# Altium footprint library Switch_PcbLib.PcbLib: 24 footprints (part 2 of 2)
Each footprint in its own frame and in the unit in brackets; x right, y up, seen from the top. Pads: shape width x height; smd on the part's side, far side on the other; paste and mask are expansions set on the pad; w line width, h text height; cw(c..) or ccw(c..) is an arc to the next point about the centre after c.
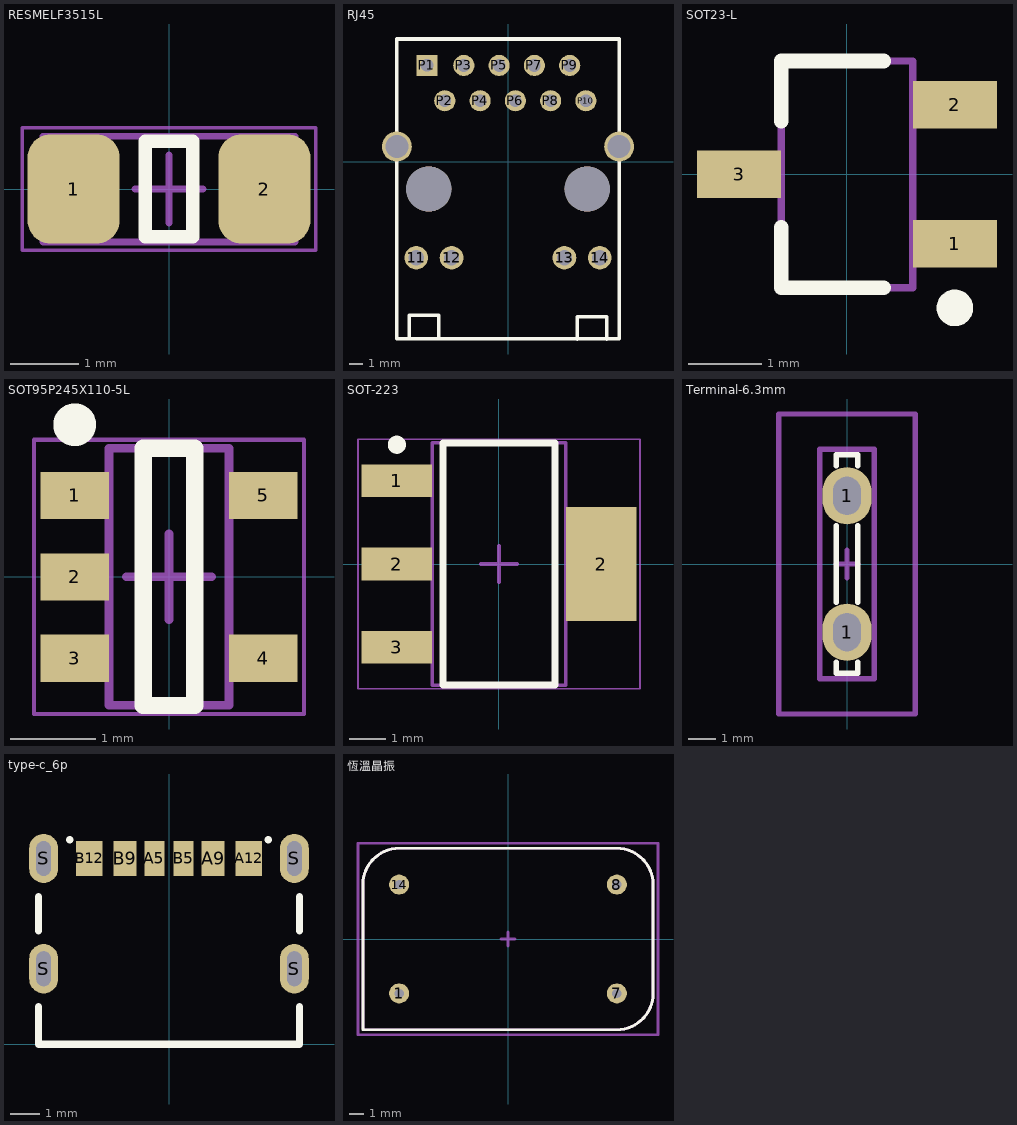
[diagram p1: the footprints below, top view; thin cyan lines are the x and y axes]

## RESMELF3515L [mm] "MELF Resistor, 2-Leads, Body 3.50x1.45mm, IPC High Density"
height 1.55
pads (2):
  rrect50% 1.35x1.6 smd: 1(-1.4,0) 2(1.4,0)
Top Overlay:
  lines w0.2: -0.35,-0.7 0.35,-0.7 0.35,0.7 -0.35,0.7 -0.35,-0.7
Mechanical 13:
  lines w0.1: -1.85,-0.775 -1.85,0.775 1.85,0.775 1.85,-0.775 -1.85,-0.775
Mechanical 15:
  lines w0.05: -2.15,-0.9 -2.15,0.9 2.15,0.9 2.15,-0.9 -2.15,-0.9
  lines w0.1: -0.5,0 0.5,0 ; 0,-0.5 0,0.5
3D body: height 1.55, standoff 0, extent -1.85,-0.775 -0.95,0.775
3D body: height 1.54, standoff 0.05, extent -0.95,-0.745 0.95,0.745
3D body: height 1.55, standoff 0, extent 0.95,-0.775 1.85,0.775

## RJ45 [mil]
pads (18):
  round 66.93 hole 43.31: 11(-260,-272.62) 12(-160,-272.62) 13(160,-272.62) 14(260,-272.62)
  rect 60x60 hole 35.83: P1(-229.63,272.62)
  round 60 hole 35.83: P2(-179.1,172.38) P3(-125.2,272.38) P4(-79.1,172.38) P5(-25.2,272.38) P6(20.9,172.38) P7(74.8,272.38) P8(120.9,172.38) P9(174.8,272.38) P10(220.9,172.38)
  round 85 hole 65: SHIELD0(315,42.48) SHIELD1(-315,42.48)
  round 127.95 hole 127.95 unplated: ""(-224.4,-77.62) ""(224.4,-77.62)
Top Overlay:
  lines w10: -279.5,-498.88 -279.5,-467.38 -279.5,-435.88 -196.82,-435.88 -196.82,-498.88 ; 196.85,-502.82 196.85,-471.32 196.85,-439.82 279.53,-439.82 279.53,-502.82 ; -315,-502.62 315,-502.62 315,347.38 -315,347.38 -315,-502.62
3D body "HR911130A.STEP": height 551.18, standoff -98.43, extent -314.96,-503.94 310.24,338.58

## SOT23-L [mm]
pads (3):
  rect 1.15x0.65 smd: 1(1.475,-0.95) 2(1.475,0.95) 3(-1.475,0)
Top Overlay:
  circle w0.25: c1.475,-1.825 r0.125
  lines w0.2: -0.9,-0.725 -0.9,-1.55 0.5,-1.55 ; -0.9,0.725 -0.9,1.55 0.5,1.55
Mechanical 13:
  lines w0.1: -0.9,-1.55 -0.9,1.55 0.9,1.55 0.9,-1.55 -0.9,-1.55
3D body "SOT-23-3.STEP": height 1.2, standoff 0, extent -1.4,-1.45 1.4,1.45

## SOT95P245X110-5L [mm] "SOT23, 5-Leads, Body 2.90x2.45mm, Pitch 0.95mm, IPC High Density"
height 1.1
pads (5):
  rect 0.8x0.55 smd: 1(-1.1,0.95) 2(-1.1,0) 3(-1.1,-0.95) 4(1.1,-0.95) 5(1.1,0.95)
Top Overlay:
  circle w0.25: c-1.1,1.775 r0.125
  lines w0.2: -0.3,-1.5 0.3,-1.5 0.3,1.5 -0.3,1.5 -0.3,-1.5
Mechanical 13:
  lines w0.1: -0.7,-1.5 -0.7,1.5 0.7,1.5 0.7,-1.5 -0.7,-1.5
Mechanical 15:
  lines w0.05: -1.575,-1.6 -1.575,1.6 1.575,1.6 1.575,-1.6 -1.575,-1.6
  lines w0.1: -0.5,0 0.5,0 ; 0,-0.5 0,0.5
3D body "SOT-23-5.STEP": height 1.2, standoff 0, extent -1.4,-1.45 1.4,1.45

## SOT-223 [mm] "SOT223, 4-Leads, Body 6.50x7.00mm (avg), Pitch 2.30mm, IPC High Density"
height 1.8
pads (4):
  rect 1.95x0.9 smd: 1(-2.825,2.3) 2(-2.825,0) 3(-2.825,-2.3)
  rect 1.95x3.15 smd: 2(2.825,0)
Top Overlay:
  circle w0.25: c-2.825,3.3 r0.125
  lines w0.2: -1.55,-3.35 1.55,-3.35 1.55,3.35 -1.55,3.35 -1.55,-3.35
Mechanical 13:
  lines w0.1: -1.85,-3.35 1.85,-3.35 1.85,3.35 -1.85,3.35 -1.85,-3.35
Mechanical 15:
  lines w0.05: -3.9,-3.45 3.9,-3.45 3.9,3.45 -3.9,3.45 -3.9,-3.45
  lines w0.1: -0.5,0 0.5,0 ; 0,-0.5 0,0.5
3D body "TO-223.STEP": height 1.64, standoff -0.04, extent -3.489,-3.242 3.49,3.243

## Terminal-6.3mm [mm]
pads (2):
  oval 1.8x2.1 hole 1 slot 1.4 at 90 deg: 1(0,-2.5) 1(0,2.5)
Top Overlay:
  lines w0.2: -0.4,-3.6 -0.4,-4 0.4,-4 0.4,-3.6 ; -0.4,-1.4 -0.4,1.4 ; -0.4,3.6 -0.4,4 0.4,4 0.4,3.6 ; 0.4,-1.4 0.4,1.4
Mechanical 15:
  lines w0.2: -0.4,0 0.4,0 ; 0,-0.5 0,0.5 ; -2.5,-5.5 -2.5,5.5 2.5,5.5 2.5,0 2.5,-5.5 -2.5,-5.5 ; -1,-4.2 1,-4.2 1,4.2 -1,4.2 -1,-4.2
3D body "6_3mm_ternmail_pcb.step": height 10, standoff -3.5, extent -0.4,-4 0.4,4

## type-c_6p [mm]
pads (10):
  rect 0.7x1.2 smd: A5(-0.5,6.4) B5(0.5,6.4)
  rect 0.8x1.2 smd: A9(1.52,6.4) B9(-1.52,6.4)
  rect 0.9x1.2 smd: A12(2.75,6.4) B12(-2.75,6.4)
  oval 1x1.7 hole 0.5 slot 1.2 at 90 deg: S(-4.32,2.6) S(-4.32,6.4) S(4.32,2.6) S(4.32,6.4)
Top Overlay:
  lines w0.25: -4.5,1.289 -4.5,0 4.5,0 4.5,1.289 ; -4.5,3.911 -4.5,5.089 ; -3.425,7.05 -3.424,7.05 ; 3.424,7.05 3.425,7.05 ; 4.5,3.911 4.5,5.089
3D body "type-c-6p.stp": height 3.16, standoff -1.05, extent -4.47,0 4.47,7

## 恆溫晶振 [mm] "恆溫晶振"
pads (4):
  round 1.4 hole 0.65: 1(-7.62,-3.81) 7(7.62,-3.81) 8(7.62,3.81) 14(-7.62,3.81)
Top Overlay:
  lines w0.2: -10.16,-6.35 -10.16,3.81 cw(c-7.62,3.81) -7.62,6.35 7.62,6.35 cw(c7.62,3.81) 10.16,3.81 10.16,-3.81 cw(c7.62,-3.81) 7.62,-6.35 -10.16,-6.35
Mechanical 15:
  lines w0.2: -0.5,0 0.5,0 ; 0,-0.5 0,0.5 ; -10.5,-6.7 -10.5,6.7 10.5,6.7 10.5,-6.7 -10.5,-6.7 ; -10.16,-6.24 -10.16,3.81 cw(c-7.62,3.81) -7.62,6.35 7.62,6.35 cw(c7.62,3.81) 10.16,3.81 10.16,-3.81 cw(c7.62,-3.81) 7.62,-6.35 -10.05,-6.35 -10.16,-6.24
3D body "OCXO.STEP": height 8.4, standoff -5.7, extent -10.4,-6.6 10.4,6.6